# Altium schematic symbol library WE-CMB NiZn.SchLib: 11 symbols
Pins are listed as number, name and electrical type; pins without a type are passive.

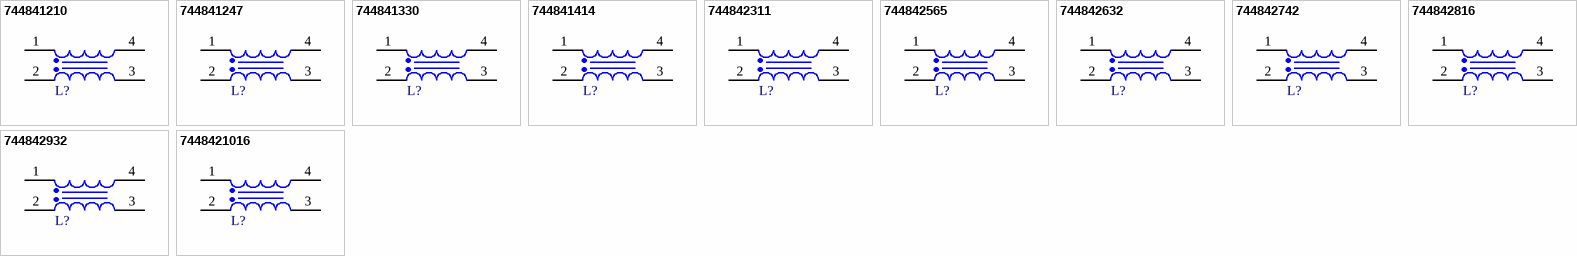
[diagram p0: symbols 744841210 to 7448421016]

## 744841210
designator L?, comment 100uH  (value not drawn)
WE-CMB NiZn Common Mode Power Line Choke, THT, Type XS, 100uH, 1.5A, 80mOhm; Manufacturer Part Number: 744841210; Manufacturer: Wurth Elektronik; Case/Size Code: Type XS; Insulation Test Voltage (AC): 1500V; Rated Voltage (AC): 250V; Category: Common Mode Chokes; Match Code: WE-CMB NiZn; ComponentLink1Description: Website Link; ComponentLink1URL: https://www.we-online.com/redexpert/article/744841210?ad; ComponentLink2Description: Datasheet Link; ComponentLink2URL: https://www.we-online.com/redexpert/spec/744841210?ad; Mount: Through Hole; Operating Temperature Max: 125°C; Operating Temperature Min: -40°C; Packaging: Tray; Length: 16mm; Width: 7.5mm; Height: 17.5mm; DC Resistance Max: 80mOhm; Inductance: 100uH; Material: NiZn; Rated Current: 1.5A
footprint WE-CMB NiZn_Type XS
simulation model XS_744841210_0.1m
pins: 1, 2, 3, 4

## 744841247
designator L?, comment 47uH  (value not drawn)
WE-CMB NiZn Common Mode Power Line Choke, THT, Type XS, 47uH, 2A, 40mOhm; Manufacturer Part Number: 744841247; Manufacturer: Wurth Elektronik; Case/Size Code: Type XS; Insulation Test Voltage (AC): 1500V; Rated Voltage (AC): 250V; Category: Common Mode Chokes; Match Code: WE-CMB NiZn; ComponentLink1Description: Website Link; ComponentLink1URL: https://www.we-online.com/redexpert/article/744841247?ad; ComponentLink2Description: Datasheet Link; ComponentLink2URL: https://www.we-online.com/redexpert/spec/744841247?ad; Mount: Through Hole; Operating Temperature Max: 125°C; Operating Temperature Min: -40°C; Packaging: Tray; Length: 16mm; Width: 7.5mm; Height: 17.5mm; DC Resistance Max: 40mOhm; Inductance: 47uH; Material: NiZn; Rated Current: 2A
footprint WE-CMB NiZn_Type XS
simulation model XS_744841247_47u
pins: 1, 2, 3, 4

## 744841330
designator L?, comment 30uH  (value not drawn)
WE-CMB NiZn Common Mode Power Line Choke, THT, Type XS, 30uH, 3A, 26mOhm; Manufacturer Part Number: 744841330; Manufacturer: Wurth Elektronik; Case/Size Code: Type XS; Insulation Test Voltage (AC): 1500V; Rated Voltage (AC): 250V; Category: Common Mode Chokes; Match Code: WE-CMB NiZn; ComponentLink1Description: Website Link; ComponentLink1URL: https://www.we-online.com/redexpert/article/744841330?ad; ComponentLink2Description: Datasheet Link; ComponentLink2URL: https://www.we-online.com/redexpert/spec/744841330?ad; Mount: Through Hole; Operating Temperature Max: 125°C; Operating Temperature Min: -40°C; Packaging: Tray; Length: 16mm; Width: 7.5mm; Height: 17.5mm; DC Resistance Max: 26mOhm; Inductance: 30uH; Material: NiZn; Rated Current: 3A
footprint WE-CMB NiZn_Type XS
simulation model XS_744841330_30u
pins: 1, 2, 3, 4

## 744841414
designator L?, comment 14uH  (value not drawn)
WE-CMB NiZn Common Mode Power Line Choke, THT, Type XS, 14uH, 4A, 15mOhm; Manufacturer Part Number: 744841414; Manufacturer: Wurth Elektronik; Case/Size Code: Type XS; Insulation Test Voltage (AC): 1500V; Rated Voltage (AC): 250V; Category: Common Mode Chokes; Match Code: WE-CMB NiZn; ComponentLink1Description: Website Link; ComponentLink1URL: https://www.we-online.com/redexpert/article/744841414?ad; ComponentLink2Description: Datasheet Link; ComponentLink2URL: https://www.we-online.com/redexpert/spec/744841414?ad; Mount: Through Hole; Operating Temperature Max: 125°C; Operating Temperature Min: -40°C; Packaging: Tray; Length: 16mm; Width: 7.5mm; Height: 17.5mm; DC Resistance Max: 15mOhm; Inductance: 14uH; Material: NiZn; Rated Current: 4A
footprint WE-CMB NiZn_Type XS
simulation model XS_744841414_14u
pins: 1, 2, 3, 4

## 744842311
designator L?, comment 110uH  (value not drawn)
WE-CMB NiZn Common Mode Power Line Choke, THT, Type S, 110uH, 3A, 31mOhm; Manufacturer Part Number: 744842311; Manufacturer: Wurth Elektronik; Case/Size Code: Type S; Insulation Test Voltage (AC): 1500V; Rated Voltage (AC): 250V; Category: Common Mode Chokes; Match Code: WE-CMB NiZn; ComponentLink1Description: Website Link; ComponentLink1URL: https://www.we-online.com/redexpert/article/744842311?ad; ComponentLink2Description: Datasheet Link; ComponentLink2URL: https://www.we-online.com/redexpert/spec/744842311?ad; Mount: Through Hole; Operating Temperature Max: 125°C; Operating Temperature Min: -40°C; Packaging: Tray; Length: 18.5mm; Width: 14.5mm; Height: 22mm; DC Resistance Max: 31mOhm; Inductance: 110uH; Material: NiZn; Rated Current: 3A
footprint WE-CMB NiZn_Type S
simulation model S_744842311_0.11m
pins: 1, 2, 3, 4

## 744842565
designator L?, comment 65uH  (value not drawn)
WE-CMB NiZn Common Mode Power Line Choke, THT, Type S, 65uH, 5A, 13mOhm; Manufacturer Part Number: 744842565; Manufacturer: Wurth Elektronik; Case/Size Code: Type S; Insulation Test Voltage (AC): 1500V; Rated Voltage (AC): 250V; Category: Common Mode Chokes; Match Code: WE-CMB NiZn; ComponentLink1Description: Website Link; ComponentLink1URL: https://www.we-online.com/redexpert/article/744842565?ad; ComponentLink2Description: Datasheet Link; ComponentLink2URL: https://www.we-online.com/redexpert/spec/744842565?ad; Mount: Through Hole; Operating Temperature Max: 125°C; Operating Temperature Min: -40°C; Packaging: Tray; Length: 18.5mm; Width: 14.5mm; Height: 22mm; DC Resistance Max: 13mOhm; Inductance: 65uH; Material: NiZn; Rated Current: 5A
footprint WE-CMB NiZn_Type S
simulation model S_744842565_65u
pins: 1, 2, 3, 4

## 744842632
designator L?, comment 32uH  (value not drawn)
WE-CMB NiZn Common Mode Power Line Choke, THT, Type S, 32uH, 5.5A, 11mOhm; Manufacturer Part Number: 744842632; Manufacturer: Wurth Elektronik; Case/Size Code: Type S; Insulation Test Voltage (AC): 1500V; Rated Voltage (AC): 250V; Category: Common Mode Chokes; Match Code: WE-CMB NiZn; ComponentLink1Description: Website Link; ComponentLink1URL: https://www.we-online.com/redexpert/article/744842632?ad; ComponentLink2Description: Datasheet Link; ComponentLink2URL: https://www.we-online.com/redexpert/spec/744842632?ad; Mount: Through Hole; Operating Temperature Max: 125°C; Operating Temperature Min: -40°C; Packaging: Tray; Length: 18.5mm; Width: 14.5mm; Height: 22mm; DC Resistance Max: 11mOhm; Inductance: 32uH; Material: NiZn; Rated Current: 5.5A
footprint WE-CMB NiZn_Type S
simulation model S_744842632_32u
pins: 1, 2, 3, 4

## 744842742
designator L?, comment 42uH  (value not drawn)
WE-CMB NiZn Common Mode Power Line Choke, THT, Type S, 42uH, 6.5A, 8.1mOhm; Manufacturer Part Number: 744842742; Manufacturer: Wurth Elektronik; Case/Size Code: Type S; Insulation Test Voltage (AC): 1500V; Rated Voltage (AC): 250V; Category: Common Mode Chokes; Match Code: WE-CMB NiZn; ComponentLink1Description: Website Link; ComponentLink1URL: https://www.we-online.com/redexpert/article/744842742?ad; ComponentLink2Description: Datasheet Link; ComponentLink2URL: https://www.we-online.com/redexpert/spec/744842742?ad; Mount: Through Hole; Operating Temperature Max: 125°C; Operating Temperature Min: -40°C; Packaging: Tray; Length: 18.5mm; Width: 14.5mm; Height: 22mm; DC Resistance Max: 8.1mOhm; Inductance: 42uH; Material: NiZn; Rated Current: 6.5A
footprint WE-CMB NiZn_Type S
simulation model S_744842742_42u
pins: 1, 2, 3, 4

## 744842816
designator L?, comment 16uH  (value not drawn)
WE-CMB NiZn Common Mode Power Line Choke, THT, Type S, 16uH, 7.5A, 5.5mOhm; Manufacturer Part Number: 744842816; Manufacturer: Wurth Elektronik; Case/Size Code: Type S; Insulation Test Voltage (AC): 1500V; Rated Voltage (AC): 250V; Category: Common Mode Chokes; Match Code: WE-CMB NiZn; ComponentLink1Description: Website Link; ComponentLink1URL: https://www.we-online.com/redexpert/article/744842816?ad; ComponentLink2Description: Datasheet Link; ComponentLink2URL: https://www.we-online.com/redexpert/spec/744842816?ad; Mount: Through Hole; Operating Temperature Max: 125°C; Operating Temperature Min: -40°C; Packaging: Tray; Length: 18.5mm; Width: 14.5mm; Height: 22mm; DC Resistance Max: 5.5mOhm; Inductance: 16uH; Material: NiZn; Rated Current: 7.5A
footprint WE-CMB NiZn_Type S
simulation model S_744842816_16u
pins: 1, 2, 3, 4

## 744842932
designator L?, comment 32uH  (value not drawn)
WE-CMB NiZn Common Mode Power Line Choke, THT, Type S, 32uH, 8.5A, 5.5mOhm; Manufacturer Part Number: 744842932; Manufacturer: Wurth Elektronik; Case/Size Code: Type S; Insulation Test Voltage (AC): 1500V; Rated Voltage (AC): 250V; Category: Common Mode Chokes; Match Code: WE-CMB NiZn; ComponentLink1Description: Website Link; ComponentLink1URL: https://www.we-online.com/redexpert/article/744842932?ad; ComponentLink2Description: Datasheet Link; ComponentLink2URL: https://www.we-online.com/redexpert/spec/744842932?ad; Mount: Through Hole; Operating Temperature Max: 125°C; Operating Temperature Min: -40°C; Packaging: Tray; Length: 18.5mm; Width: 14.5mm; Height: 22mm; DC Resistance Max: 5.5mOhm; Inductance: 32uH; Material: NiZn; Rated Current: 8.5A
footprint WE-CMB NiZn_Type S
simulation model S_744842932_32u
pins: 1, 2, 3, 4

## 7448421016
designator L?, comment 16uH  (value not drawn)
WE-CMB NiZn Common Mode Power Line Choke, THT, Type S, 16uH, 10A, 2.7mOhm; Manufacturer Part Number: 7448421016; Manufacturer: Wurth Elektronik; Case/Size Code: Type S; Insulation Test Voltage (AC): 1500V; Rated Voltage (AC): 250V; Category: Common Mode Chokes; Match Code: WE-CMB NiZn; ComponentLink1Description: Website Link; ComponentLink1URL: https://www.we-online.com/redexpert/article/7448421016?ad; ComponentLink2Description: Datasheet Link; ComponentLink2URL: https://www.we-online.com/redexpert/spec/7448421016?ad; Mount: Through Hole; Operating Temperature Max: 125°C; Operating Temperature Min: -40°C; Packaging: Tray; Length: 18.5mm; Width: 14.5mm; Height: 22mm; DC Resistance Max: 2.7mOhm; Inductance: 16uH; Material: NiZn; Rated Current: 10A
footprint WE-CMB NiZn_Type S
simulation model S_7448421016_16u
pins: 1, 2, 3, 4